# Altium footprint library PcbLib1.PcbLib: 28 footprints (part 1 of 2)
Each footprint in its own frame and in the unit in brackets; x right, y up, seen from the top. Pads: shape width x height; smd on the part's side, far side on the other; paste and mask are expansions set on the pad; w line width, h text height; cw(c..) or ccw(c..) is an arc to the next point about the centre after c.
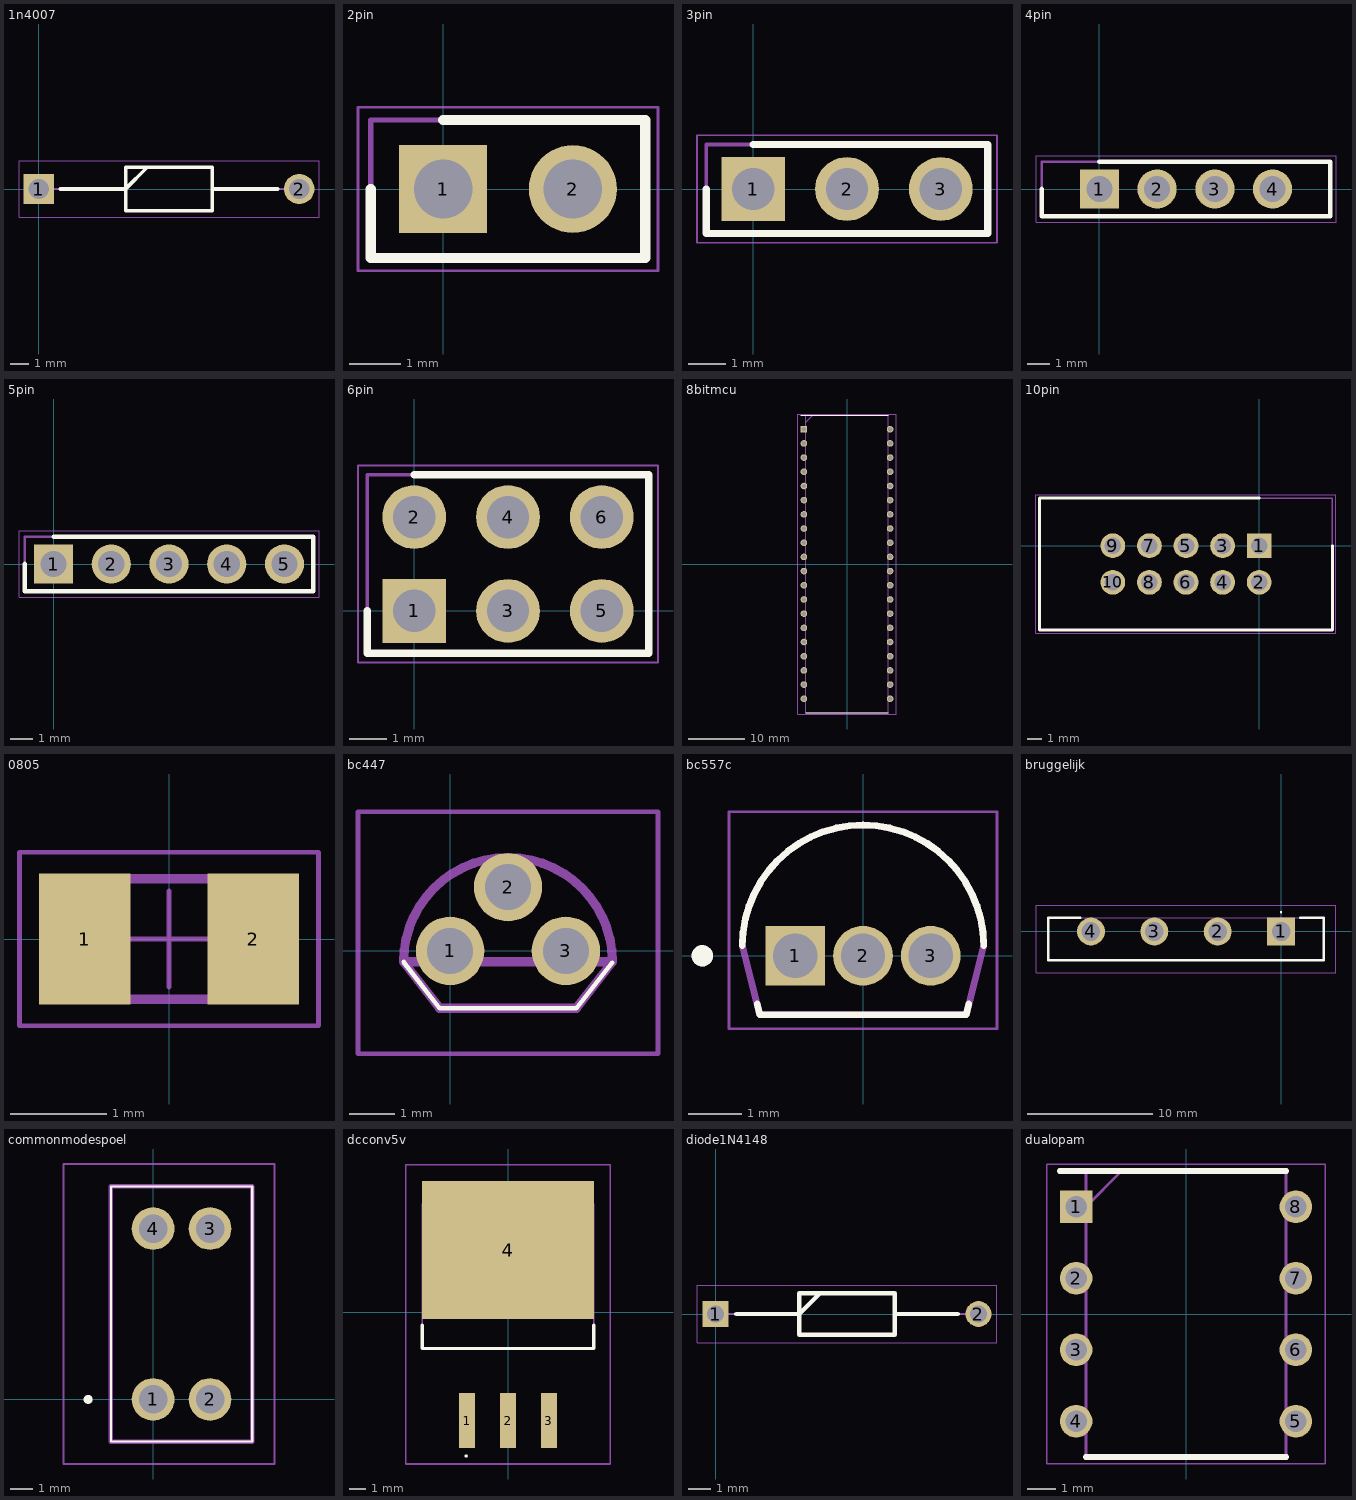
[diagram p0: the footprints below, top view; thin cyan lines are the x and y axes]

## 1n4007 [mm]
pads (2):
  rect 1.65x1.65 hole 1.1: 1(0,0)
  round 1.65 hole 1.1: 2(14.1,0)
Top Overlay:
  lines w0.2: 1.175,0 4.7,0 5.875,1.175 ; 9.4,0 12.925,0 ; 4.7,-1.175 4.7,1.175 9.4,1.175 9.4,-1.175 4.7,-1.175
Mechanical 13:
  lines w0.1: 0,0 4.7,0 5.875,1.175 ; 9.4,0 14.1,0 ; 4.7,-1.175 4.7,1.175 9.4,1.175 9.4,-1.175 4.7,-1.175
Mechanical 15:
  lines w0.05: -1.075,-1.525 -1.075,1.525 15.175,1.525 15.175,-1.525 -1.075,-1.525
3D body "1N4007-B.stp": height 2.69, standoff -2.7, extent -0.446,-1.347 14.55,1.347

## 2pin [mm]
pads (2):
  rect 1.725x1.725 hole 1.15: 1(0,0)
  round 1.725 hole 1.15: 2(2.54,0)
Top Overlay:
  lines w0.2: -1.42,0 -1.42,-1.355 3.96,-1.355 3.96,1.355 0,1.355
Mechanical 13:
  lines w0.1: -1.42,-1.355 -1.42,1.355 3.96,1.355 3.96,-1.355 -1.42,-1.355
Mechanical 15:
  lines w0.05: -1.67,-1.605 -1.67,1.605 4.21,1.605 4.21,-1.605 -1.67,-1.605
3D body "10129378-902001BLF.stp": height 8.43, standoff -3.3, extent -1.27,-1.205 3.81,1.205

## 3pin [mm]
pads (3):
  rect 1.725x1.725 hole 1.15: 1(0,0)
  round 1.725 hole 1.15: 2(2.54,0) 3(5.08,0)
Top Overlay:
  lines w0.2: -1.27,0 -1.27,-1.205 6.35,-1.205 6.35,1.205 0,1.205
Mechanical 13:
  lines w0.1: -1.27,-1.205 6.35,-1.205 6.35,1.205 -1.27,1.205 -1.27,-1.205
Mechanical 15:
  lines w0.05: -1.52,-1.455 6.6,-1.455 6.6,1.455 -1.52,1.455 -1.52,-1.455
3D body "10129378-903001BLF.stp": height 8.58, standoff -3.3, extent -1.27,-1.205 6.35,1.205

## 4pin [mm]
pads (4):
  rect 1.725x1.725 hole 1.15: 1(0,0)
  round 1.725 hole 1.15: 2(2.54,0) 3(5.08,0) 4(7.62,0)
Top Overlay:
  lines w0.2: -2.54,0 -2.54,-1.205 10.16,-1.205 10.16,1.205 0,1.205
Mechanical 13:
  lines w0.1: -2.54,-1.205 10.16,-1.205 10.16,1.205 -2.54,1.205 -2.54,-1.205
Mechanical 15:
  lines w0.05: -2.79,-1.455 10.41,-1.455 10.41,1.455 -2.79,1.455 -2.79,-1.455
3D body "10129378-904001BLF.stp": height 8.58, standoff -3.3, extent -2.54,-1.205 10.16,1.205

## 5pin [mm]
pads (5):
  rect 1.725x1.725 hole 1.15: 1(0,0)
  round 1.725 hole 1.15: 2(2.54,0) 3(5.08,0) 4(7.62,0) 5(10.16,0)
Top Overlay:
  lines w0.2: -1.27,0 -1.27,-1.205 11.43,-1.205 11.43,1.205 0,1.205
Mechanical 13:
  lines w0.1: -1.27,-1.205 11.43,-1.205 11.43,1.205 -1.27,1.205 -1.27,-1.205
Mechanical 15:
  lines w0.05: -1.52,-1.455 11.68,-1.455 11.68,1.455 -1.52,1.455 -1.52,-1.455
3D body "10129378-905001BLF.stp": height 8.58, standoff -3.3, extent -1.27,-1.205 11.43,1.205

## 6pin [mm]
pads (6):
  rect 1.725x1.725 hole 1.15: 1(0,0)
  round 1.725 hole 1.15: 2(0,2.54) 3(2.54,0) 4(2.54,2.54) 5(5.08,0) 6(5.08,2.54)
Top Overlay:
  lines w0.2: -1.27,0 -1.27,-1.145 6.35,-1.145 6.35,3.685 0,3.685
Mechanical 13:
  lines w0.1: -1.27,-1.145 -1.27,3.685 6.35,3.685 6.35,-1.145 -1.27,-1.145
Mechanical 15:
  lines w0.05: -1.52,-1.395 -1.52,3.935 6.6,3.935 6.6,-1.395 -1.52,-1.395
3D body "10129381-906002BLF.stp": height 8.58, standoff -2.54, extent -1.27,-1.145 6.35,3.685

## 8bitmcu [mm]
pads (40):
  rect 1.184x1.184 hole 0.784: 1(-7.715,24.13)
  round 1.184 hole 0.784: 2(-7.715,21.59) 3(-7.715,19.05) 4(-7.715,16.51) 5(-7.715,13.97) 6(-7.715,11.43) 7(-7.715,8.89) 8(-7.715,6.35) 9(-7.715,3.81) 10(-7.715,1.27) 11(-7.715,-1.27) 12(-7.715,-3.81) 13(-7.715,-6.35) 14(-7.715,-8.89) 15(-7.715,-11.43) 16(-7.715,-13.97) 17(-7.715,-16.51) 18(-7.715,-19.05) 19(-7.715,-21.59) 20(-7.715,-24.13) 21(7.715,-24.13) 22(7.715,-21.59) 23(7.715,-19.05) 24(7.715,-16.51) 25(7.715,-13.97) 26(7.715,-11.43) 27(7.715,-8.89) 28(7.715,-6.35) 29(7.715,-3.81) 30(7.715,-1.27) 31(7.715,1.27) 32(7.715,3.81) 33(7.715,6.35) 34(7.715,8.89) 35(7.715,11.43) 36(7.715,13.97) 37(7.715,16.51) 38(7.715,19.05) 39(7.715,21.59) 40(7.715,24.13)
Top Overlay:
  lines w0.2: -8.307,26.606 7.366,26.606 ; -7.366,-26.606 7.366,-26.606
Mechanical 13:
  lines w0.1: -7.366,25.336 -6.096,26.606 ; -7.366,-26.606 -7.366,26.606 7.366,26.606 7.366,-26.606 -7.366,-26.606
Mechanical 15:
  lines w0.05: -8.78,-26.856 -8.78,26.856 8.78,26.856 8.78,-26.856 -8.78,-26.856
3D body "ATMEGA4809-PF.stp": height 6.35, standoff -3.5, extent -7.861,-25.876 7.861,25.876

## 10pin [mm]
pads (10):
  rect 1.725x1.725 hole 1.15: 1(0,0)
  round 1.725 hole 1.15: 2(0,-2.54) 3(-2.54,0) 4(-2.54,-2.54) 5(-5.08,0) 6(-5.08,-2.54) 7(-7.62,0) 8(-7.62,-2.54) 9(-10.16,0) 10(-10.16,-2.54)
Top Overlay:
  lines w0.2: 0,3.302 -15.24,3.302 -15.24,-5.842 5.08,-5.842 5.08,0
Mechanical 13:
  lines w0.1: -15.24,-5.842 -15.24,3.302 5.08,3.302 5.08,-5.842 -15.24,-5.842
Mechanical 15:
  lines w0.05: -15.49,-6.092 -15.49,3.552 5.33,3.552 5.33,-6.092 -15.49,-6.092
3D body "5103309-1.stp": height 9.8, standoff -3.1, extent -15.24,-5.842 5.08,3.302

## 0805 [mm] "Metal Plate Resistor, SMT, body size 2x1.25mm"
height 0.35
pads (2):
  rect 0.95x1.36 smd: 1(-0.875,0) 2(0.875,0)
Mechanical 13:
  lines w0.1: -1,-0.625 1,-0.625 1,0.625 -1,0.625 -1,-0.625
Mechanical 15:
  lines w0.05: -0.5,0 0.5,0 ; 0,-0.5 0,0.5 ; -1.55,-0.9 1.55,-0.9 1.55,0.9 -1.55,0.9 -1.55,-0.9
3D body "WRIS-PSMB_0805.stp": height 0.35, standoff 0, extent -1,-0.625 1,0.625

## bc447 [mm]
pads (3):
  round 1.5 hole 1.01: 1(0,0) 2(1.27,1.397) 3(2.54,0)
Top Overlay:
  lines w0.1: -1.02,-0.24 -0.23,-1.26 2.77,-1.26 3.56,-0.26
Mechanical 13:
  lines w0.2: -1.02,-0.24 cw(c1.27,-0.24) 3.56,-0.24 ; -1.02,-0.24 3.56,-0.24 ; -1.02,-0.24 -0.23,-1.26 2.77,-1.26 3.56,-0.24 ; -1.02,-0.24 3.56,-0.24
Mechanical 15:
  lines w0.1: -2.02,-2.26 -2.02,3.05 4.56,3.05 4.56,-2.26 -2.02,-2.26
3D body "BC547CTA.stp": height 2.6, standoff -1.59, extent -1.515,-18.886 4.445,2.884

## bc557c [mm]
pads (3):
  rect 1.12x1.12 hole 0.83: 1(-1.27,0)
  round 1.12 hole 0.83: 2(0,0) 3(1.27,0)
Top Overlay:
  circle w0.2: c-3.013,0 r0.1
  lines w0.127: -2.262,0.19 cw(c0,0.19) 2.262,0.19 ; -1.984,-0.9 -1.933,-1.105 1.933,-1.105 1.984,-0.9
Mechanical 13:
  circle w0.2: c-3.013,0 r0.1
  lines w0.127: -2.262,0.19 cw(c0,0.19) 2.262,0.19 1.933,-1.105 -1.933,-1.105 -2.262,0.19
Mechanical 15:
  lines w0.05: -2.512,-1.37 -2.512,2.703 2.512,2.703 2.512,-1.37 -2.512,-1.37
3D body "step_temp.STEP": height 5.33, standoff -12.18, extent -2.38,-1.43 2.38,2.19

## bruggelijk [mm]
pads (4):
  rect 2.235x2.235 hole 1.49: 1(0,0)
  round 2.235 hole 1.49: 2(-5.08,0) 3(-10.16,0) 4(-15.24,0)
Top Overlay:
  lines w0.1: 0,1.5 ccw(c0,1.55) 0,1.6 ccw(c0,1.55) 0,1.5
  lines w0.2: -16.08,1.108 -18.645,1.108 -18.645,-2.322 3.405,-2.322 3.405,1.108 1.52,1.108
Mechanical 13:
  lines w0.1: -18.645,-2.322 -18.645,1.108 3.405,1.108 3.405,-2.322 -18.645,-2.322
Mechanical 15:
  lines w0.1: -19.645,-3.322 -19.645,2.117 4.405,2.117 4.405,-3.322 -19.645,-3.322
3D body "GBU6J-E3_45.stp": height 18.9, standoff -5, extent -18.645,-2.322 3.405,1.108

## commonmodespoel [mm]
pads (4):
  round 1.905 hole 1.27: 1(0,0) 2(2.54,0) 3(2.54,7.62) 4(0,7.62)
Top Overlay:
  lines w0.1: -1.88,-1.88 -1.88,9.5 4.42,9.5 4.42,-1.88 -1.88,-1.88
  lines w0.2: -3,0 cw(c-2.9,0) -2.8,0 cw(c-2.9,0) -3,0
Mechanical 13:
  lines w0.2: -1.88,-1.88 -1.88,9.5 4.42,9.5 4.42,-1.88 -1.88,-1.88
Mechanical 15:
  lines w0.1: -4,-2.88 -4,10.5 5.42,10.5 5.42,-2.88 -4,-2.88
3D body "CM2545X171B-10.stp": height 9.6, standoff -5, extent -1.88,-1.88 4.42,9.5

## dcconv5v [mm]
pads (4):
  rect 1x3.4 smd: 1(-2.54,-6.745) 2(0,-6.745) 3(2.54,-6.745)
  rect 10.7x8.6 smd: 4(0,3.855)
Top Overlay:
  lines w0.1: -2.6,-9 ccw(c-2.6,-8.95) -2.6,-8.9 ccw(c-2.6,-8.95) -2.6,-9
  lines w0.2: -5.33,-0.8 -5.33,-2.27 5.33,-2.27 5.33,-0.8
Mechanical 13:
  lines w0.1: -5.33,-2.27 5.33,-2.27 5.33,6.745 -5.33,6.745 -5.33,-2.27
Mechanical 15:
  lines w0.1: -6.35,-9.445 6.35,-9.445 6.35,9.155 -6.35,9.155 -6.35,-9.445

## diode1N4148 [mm]
pads (2):
  rect 1.15x1.15 hole 0.75: 1(0,0)
  round 1.15 hole 0.75: 2(11.7,0)
Top Overlay:
  lines w0.2: 0.925,0 3.725,0 4.65,0.925 ; 7.975,0 10.775,0 ; 3.725,-0.925 3.725,0.925 7.975,0.925 7.975,-0.925 3.725,-0.925
Mechanical 13:
  lines w0.1: 0,0 3.725,0 4.65,0.925 ; 7.975,0 11.7,0 ; 3.725,-0.925 3.725,0.925 7.975,0.925 7.975,-0.925 3.725,-0.925
Mechanical 15:
  lines w0.05: -0.825,-1.275 -0.825,1.275 12.525,1.275 12.525,-1.275 -0.825,-1.275
3D body "1N4148.stp": height 1.84, standoff -1.85, extent -0.278,-0.923 11.93,0.923

## dualopam [mm]
pads (8):
  rect 1.158x1.158 hole 0.758: 1(-3.905,3.81)
  round 1.158 hole 0.758: 2(-3.905,1.27) 3(-3.905,-1.27) 4(-3.905,-3.81) 5(3.905,-3.81) 6(3.905,-1.27) 7(3.905,1.27) 8(3.905,3.81)
Top Overlay:
  lines w0.2: -4.484,5.08 3.556,5.08 ; -3.556,-5.08 3.556,-5.08
Mechanical 13:
  lines w0.1: -3.556,3.81 -2.286,5.08 ; -3.556,-5.08 3.556,-5.08 3.556,5.08 -3.556,5.08 -3.556,-5.08
Mechanical 15:
  lines w0.05: -4.956,-5.33 4.956,-5.33 4.956,5.33 -4.956,5.33 -4.956,-5.33
3D body "MCP6002-E_P.stp": height 5.33, standoff -3.5, extent -4.045,-4.75 4.045,4.75